# Altium schematic symbol library Terminal Block 3.SchLib: 1 symbol
Pins are listed as number, name and electrical type; pins without a type are passive.

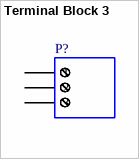
[diagram p0: symbol Terminal Block 3]

## Terminal Block 3
designator P?
Screw terminal block, 3-Way
pins: 1, 2, 3